# Altium footprint library SIM800.PcbLib: 9 footprints
Each footprint in its own frame and in the unit in brackets; x right, y up, seen from the top. Pads: shape width x height; smd on the part's side, far side on the other; paste and mask are expansions set on the pad; w line width, h text height; cw(c..) or ccw(c..) is an arc to the next point about the centre after c.
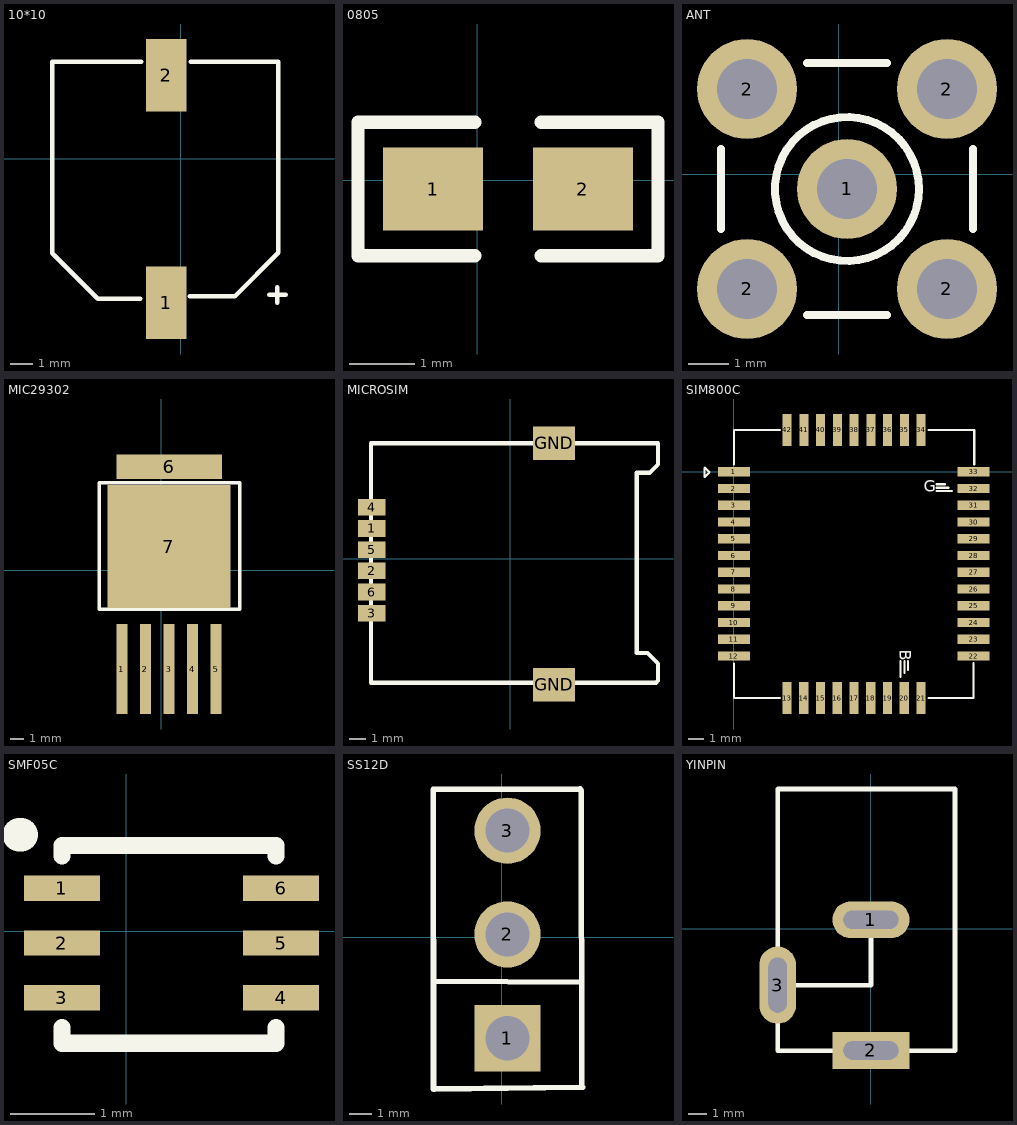
[diagram p0: the footprints below, top view; thin cyan lines are the x and y axes]

## 10*10 [mm]
pads (2):
  rect 1.8x3.2 smd: 1(-0.642,-6.35) 2(-0.642,3.683)
Top Overlay:
  lines w0.2: -1.792,-6.174 -3.667,-6.174 -5.667,-4.174 -5.667,4.276 -1.742,4.276 ; 0.408,-6.074 2.383,-6.074 4.308,-4.149 4.308,4.276 ; 0.433,4.276 4.233,4.276 ; 3.908,-5.999 4.633,-5.999 ; 4.258,-6.349 4.258,-5.674

## 0805 [mil]
pads (2):
  rect 60x50 smd: 1(-26.51,-5.25) 2(63.49,-5.25)
Top Overlay:
  lines w8: -1.51,-45.25 -71.51,-45.25 -71.51,34.75 -1.51,34.75 ; 38.49,-45.25 108.49,-45.25 108.49,34.75 38.49,34.75

## ANT [mm]
pads (5):
  round 2.5 hole 1.5: 1(0.202,-0.373) 2(-2.298,-2.873) 2(-2.298,2.127) 2(2.702,-2.873) 2(2.702,2.127)
Top Overlay:
  circle w0.2: c0.202,-0.373 r1.8
  lines w0.2: -2.948,-1.373 -2.948,0.627 ; -0.798,-3.523 1.202,-3.523 ; -0.798,2.777 1.202,2.777 ; 3.352,-1.373 3.352,0.627
Mechanical 1:
  circle w0.025: c0.202,-0.373 r0.2
  circle w0.025: c0.202,-0.373 r1.05
  circle w0.025: c0.202,-0.373 r1.8

## MIC29302 [mil]
pads (7):
  rect 32x255.91 smd: 1(-112.61,-280.81) 2(-45.61,-280.81) 3(21.39,-280.81) 4(88.39,-280.81) 5(155.39,-280.81)
  rect 300x70 smd: 6(21.91,294.51)
  rect 350x350 smd: 7(21.35,67.2)
Top Overlay:
  lines w10: -177.61,-111.05 -177.61,248.95 222.39,248.95 222.39,-111.05 -177.61,-111.05

## MICROSIM [mm]
pads (8):
  rect 1.65x1 smd: 1(-8.298,1.822) 2(-8.298,-0.718) 3(-8.298,-3.258) 4(-8.298,3.092) 5(-8.298,0.552) 6(-8.298,-1.988)
  rect 2.5x2 smd: GND(2.624,6.932) GND(2.624,-7.546)
Top Overlay:
  lines w0.254: -8.336,6.932 -8.336,-7.419 8.72,-7.419 8.847,-7.292 8.847,-6.276 8.212,-5.641 7.577,-5.641 7.577,5.154 8.339,5.154 8.847,5.662 8.847,6.831 ; -8.298,6.932 8.847,6.932

## SIM800C [mm] "SIM800C"
pads (42):
  rect 2.1x0.6 smd: 1(0,0) 2(0,-1.1) 3(0,-2.2) 4(0,-3.3) 5(0,-4.4) 6(0,-5.5) 7(0,-6.6) 8(0,-7.7) 9(0,-8.8) 10(0,-9.9) 11(0,-11) 12(0,-12.1) 22(15.74,-12.1) 23(15.74,-11) 24(15.74,-9.9) 25(15.74,-8.8) 26(15.74,-7.7) 27(15.74,-6.6) 28(15.74,-5.5) 29(15.74,-4.4) 30(15.74,-3.3) 31(15.74,-2.2) 32(15.74,-1.1) 33(15.74,0)
  rect 0.6x2.1 smd: 13(3.492,-14.859) 14(4.592,-14.859) 15(5.692,-14.859) 16(6.792,-14.859) 17(7.892,-14.859) 18(8.992,-14.859) 19(10.092,-14.859) 20(11.192,-14.859) 21(12.292,-14.859) 34(12.299,2.743) 35(11.199,2.743) 36(10.099,2.743) 37(8.999,2.743) 38(7.899,2.743) 39(6.799,2.743) 40(5.699,2.743) 41(4.599,2.743) 42(3.499,2.743)
Top Overlay:
  lines w0.14: -1.93,0.254 -1.93,-0.356 -1.626,-0.051 ; -1.905,0.279 -1.6,-0.025 ; 0,0.483 0,2.75 2.65,2.75 3.014,2.75 ; 0.012,-12.598 0.012,-14.859 3.017,-14.859 ; 12.774,-14.859 15.74,-14.859 15.74,-13.919 15.74,-12.573 ; 12.776,2.743 13.118,2.743 15.768,2.743 ; 15.785,0.483 15.785,2.75
  lines w0.15: 10.947,-13.462 10.947,-12.446 ; 11.201,-13.208 11.201,-12.446 ; 11.43,-13.005 11.43,-12.446 ; 13.31,-1.27 14.326,-1.27 ; 13.31,-1.041 14.072,-1.041 ; 13.31,-0.813 13.868,-0.813
  text "B" at 10.897,-11.684 h0.76
  text "G" at 12.471,-1.321 h0.76

## SMF05C [mm]
pads (6):
  rect 0.9x0.3 smd: 1(-0.762,0.508) 2(-0.762,-0.142) 3(-0.762,-0.792) 4(1.838,-0.792) 5(1.838,-0.142) 6(1.838,0.508)
Top Overlay:
  lines w0.203: -0.762,-1.143 -0.762,-1.33 1.778,-1.33 1.778,-1.143 ; -0.762,0.889 -0.762,1.016 1.778,1.016 1.778,0.889
  lines w0.4: -1.27,1.143 -1.245,1.143

## SS12D [mm]
pads (3):
  rect 3x3 hole 2: 1(0.254,-4.573)
  round 3 hole 2: 2(0.254,0.127) 3(0.254,4.827)
Top Overlay:
  lines w0.254: -3.096,6.691 -3.095,-6.868 ; -3.06,6.704 3.555,6.711 ; -3.053,-6.868 3.654,-6.79 ; -3.033,-1.989 3.562,-2.041 ; 3.597,6.642 3.612,-6.743

## YINPIN [mm]
pads (3):
  oval 4.2x2 hole 1 slot 3 at 0 deg: 1(0.014,0.499)
  rect 4.2x2 hole 1 slot 3 at 0 deg: 2(0.014,-6.613)
  oval 2x4.2 hole 1 slot 3 at 90 deg: 3(-5.066,-3.057)
Top Overlay:
  lines w0.254: -5.066,-3.057 0.014,-3.057 0.014,0.499 ; -5.066,7.611 -5.066,-6.638 4.586,-6.638 4.586,-6.105 4.586,7.619 -5.066,7.619